# Altium schematic symbol library develboard_symbol.SchLib: 1 symbol
Pins are listed as number, name and electrical type; pins without a type are passive.

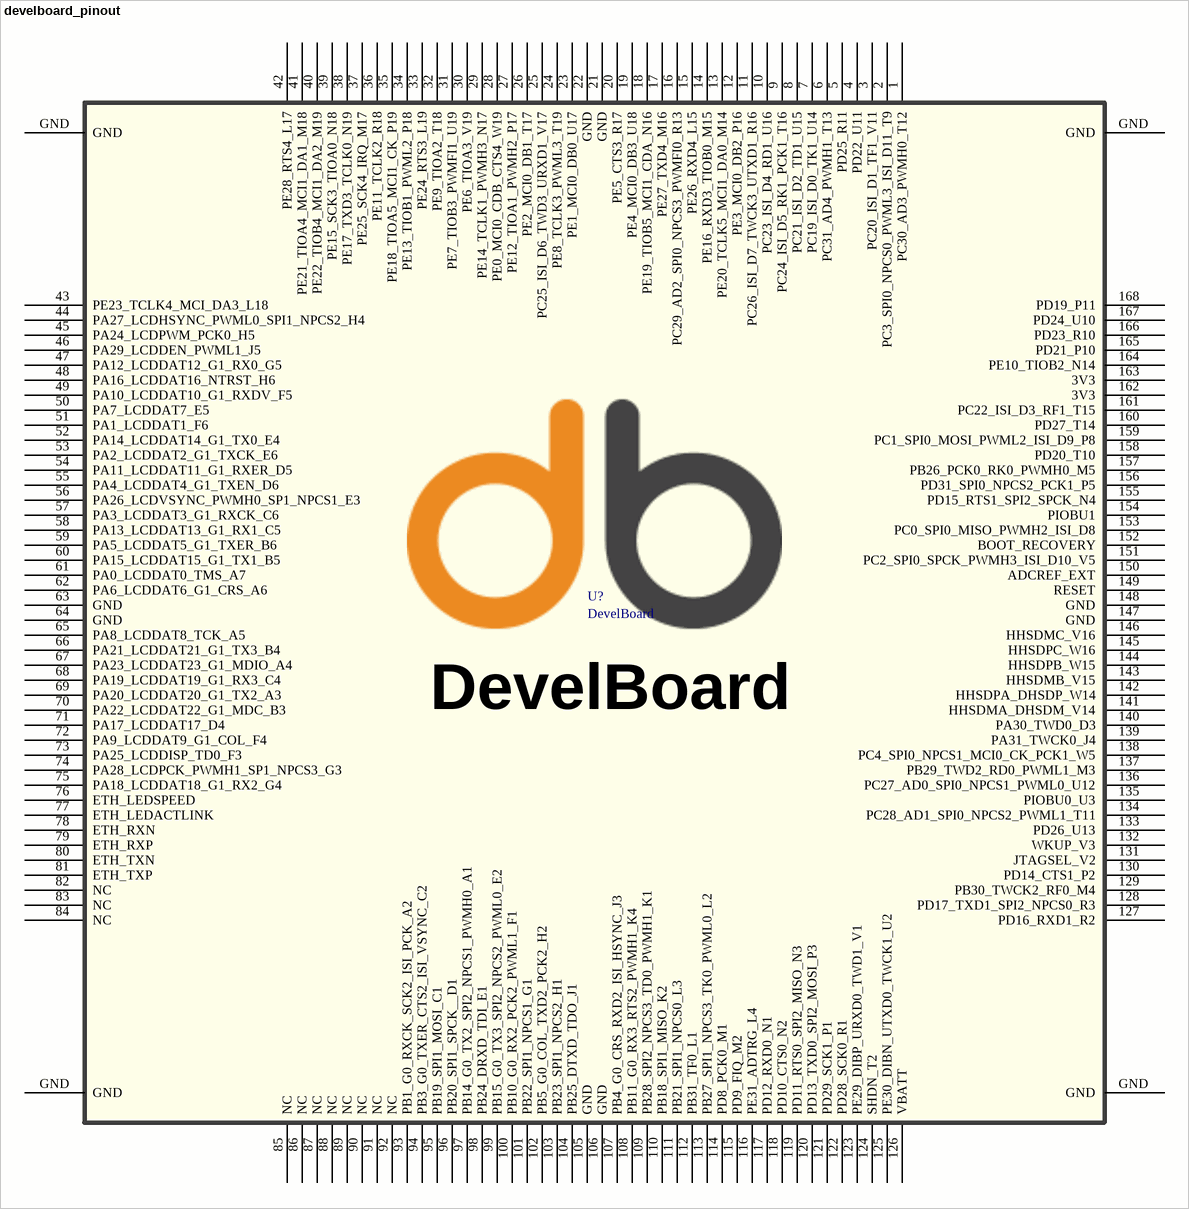
[diagram p0: symbol develboard_pinout]

## develboard_pinout
designator U?, comment DevelBoard
Faster Little Linux Module; Company: Develer srl; Symbol version: rev.0; Publish date: 26/10/2015
footprint develboard_footprint
pins: 1 PC30_AD3_PWMH0_T12, 2 PC3_SPI0_NPCS0_PWML3_ISI_D11_T9, 3 PC20_ISI_D1_TF1_V11, 4 PD22_U11, 5 PD25_R11, 6 PC31_AD4_PWMH1_T13, 7 PC19_ISI_D0_TK1_U14, 8 PC21_ISI_D2_TD1_U15, 9 PC24_ISI_D5_RK1_PCK1_T16, 10 PC23_ISI_D4_RD1_U16, 11 PC26_ISI_D7_TWCK3_UTXD1_R16, 12 PE3_MCI0_DB2_P16, 13 PE20_TCLK5_MCI1_DA0_M14, 14 PE16_RXD3_TIOB0_M15, 15 PE26_RXD4_L15, 16 PC29_AD2_SPI0_NPCS3_PWMFI0_R13, 17 PE27_TXD4_M16, 18 PE19_TIOB5_MCI1_CDA_N16, 19 PE4_MCI0_DB3_U18, 20 PE5_CTS3_R17, 21 GND, 22 GND, 23 PE1_MCI0_DB0_U17, 24 PE8_TCLK3_PWML3_T19, 25 PC25_ISI_D6_TWD3_URXD1_V17, 26 PE2_MCI0_DB1_T17, 27 PE12_TIOA1_PWMH2_P17, 28 PE0_MCI0_CDB_CTS4_W19, 29 PE14_TCLK1_PWMH3_N17, 30 PE6_TIOA3_V19, 31 PE7_TIOB3_PWMFI1_U19, 32 PE9_TIOA2_T18, 33 PE24_RTS3_L19, 34 PE13_TIOB1_PWML2_P18, 35 PE18_TIOA5_MCI1_CK_P19, 36 PE11_TCLK2_R18, 37 PE25_SCK4_IRQ_M17, 38 PE17_TXD3_TCLK0_N19, 39 PE15_SCK3_TIOA0_N18, 40 PE22_TIOB4_MCI1_DA2_M19, 41 PE21_TIOA4_MCI1_DA1_M18, 42 PE28_RTS4_L17, 43 PE23_TCLK4_MCI_DA3_L18, 44 PA27_LCDHSYNC_PWML0_SPI1_NPCS2_H4, 45 PA24_LCDPWM_PCK0_H5, 46 PA29_LCDDEN_PWML1_J5, 47 PA12_LCDDAT12_G1_RX0_G5, 48 PA16_LCDDAT16_NTRST_H6, 49 PA10_LCDDAT10_G1_RXDV_F5, 50 PA7_LCDDAT7_E5, 51 PA1_LCDDAT1_F6, 52 PA14_LCDDAT14_G1_TX0_E4, 53 PA2_LCDDAT2_G1_TXCK_E6, 54 PA11_LCDDAT11_G1_RXER_D5, 55 PA4_LCDDAT4_G1_TXEN_D6, 56 PA26_LCDVSYNC_PWMH0_SP1_NPCS1_E3, 57 PA3_LCDDAT3_G1_RXCK_C6, 58 PA13_LCDDAT13_G1_RX1_C5, 59 PA5_LCDDAT5_G1_TXER_B6, 60 PA15_LCDDAT15_G1_TX1_B5, 61 PA0_LCDDAT0_TMS_A7, 62 PA6_LCDDAT6_G1_CRS_A6, 63 GND, 64 GND, 65 PA8_LCDDAT8_TCK_A5, 66 PA21_LCDDAT21_G1_TX3_B4, 67 PA23_LCDDAT23_G1_MDIO_A4, 68 PA19_LCDDAT19_G1_RX3_C4, 69 PA20_LCDDAT20_G1_TX2_A3, 70 PA22_LCDDAT22_G1_MDC_B3, 71 PA17_LCDDAT17_D4, 72 PA9_LCDDAT9_G1_COL_F4, 73 PA25_LCDDISP_TD0_F3, 74 PA28_LCDPCK_PWMH1_SP1_NPCS3_G3, 75 PA18_LCDDAT18_G1_RX2_G4, 76 ETH_LEDSPEED, 77 ETH_LEDACTLINK, 78 ETH_RXN, 79 ETH_RXP, 80 ETH_TXN, 81 ETH_TXP, 82 NC, 83 NC, 84 NC, 85 NC, 86 NC, 87 NC, 88 NC, 89 NC, 90 NC, 91 NC, 92 NC, 93 PB1_G0_RXCK_SCK2_ISI_PCK_A2, 94 PB3_G0_TXER_CTS2_ISI_VSYNC_C2, 95 PB19_SPI1_MOSI_C1, 96 PB20_SPI1_SPCK__D1, 97 PB14_G0_TX2_SPI2_NPCS1_PWMH0_A1, 98 PB24_DRXD_TDI_E1, 99 PB15_G0_TX3_SPI2_NPCS2_PWML0_E2, 100 PB10_G0_RX2_PCK2_PWML1_F1, 101 PB22_SPI1_NPCS1_G1, 102 PB5_G0_COL_TXD2_PCK2_H2, 103 PB23_SPI1_NPCS2_H1, 104 PB25_DTXD_TDO_J1, 105 GND, 106 GND, 107 PB4_G0_CRS_RXD2_ISI_HSYNC_J3, 108 PB11_G0_RX3_RTS2_PWMH1_K4, 109 PB28_SPI2_NPCS3_TD0_PWMH1_K1, 110 PB18_SPI1_MISO_K2, 111 PB21_SPI1_NPCS0_L3, 112 PB31_TF0_L1, 113 PB27_SPI1_NPCS3_TK0_PWML0_L2, 114 PD8_PCK0_M1, 115 PD9_FIQ_M2, 116 PE31_ADTRG_L4, 117 PD12_RXD0_N1, 118 PD10_CTS0_N2, 119 PD11_RTS0_SPI2_MISO_N3, 120 PD13_TXD0_SPI2_MOSI_P3, 121 PD29_SCK1_P1, 122 PD28_SCK0_R1, 123 PE29_DIBP_URXD0_TWD1_V1, 124 SHDN_T2, 125 PE30_DIBN_UTXD0_TWCK1_U2, 126 VBATT, 127 PD16_RXD1_R2, 128 PD17_TXD1_SPI2_NPCS0_R3, 129 PB30_TWCK2_RF0_M4, 130 PD14_CTS1_P2, 131 JTAGSEL_V2, 132 WKUP_V3, 133 PD26_U13, 134 PC28_AD1_SPI0_NPCS2_PWML1_T11, 135 PIOBU0_U3, 136 PC27_AD0_SPI0_NPCS1_PWML0_U12, 137 PB29_TWD2_RD0_PWML1_M3, 138 PC4_SPI0_NPCS1_MCI0_CK_PCK1_W5, 139 PA31_TWCK0_J4, 140 PA30_TWD0_D3, 141 HHSDMA_DHSDM_V14, 142 HHSDPA_DHSDP_W14, 143 HHSDMB_V15, 144 HHSDPB_W15, 145 HHSDPC_W16, 146 HHSDMC_V16, 147 GND, 148 GND, 149 RESET, 150 ADCREF_EXT, 151 PC2_SPI0_SPCK_PWMH3_ISI_D10_V5, 152 BOOT_RECOVERY, 153 PC0_SPI0_MISO_PWMH2_ISI_D8, 154 PIOBU1, 155 PD15_RTS1_SPI2_SPCK_N4, 156 PD31_SPI0_NPCS2_PCK1_P5, 157 PB26_PCK0_RK0_PWMH0_M5, 158 PD20_T10, 159 PC1_SPI0_MOSI_PWML2_ISI_D9_P8, 160 PD27_T14, 161 PC22_ISI_D3_RF1_T15, 162 3V3, 163 3V3, 164 PE10_TIOB2_N14, 165 PD21_P10, 166 PD23_R10, 167 PD24_U10, 168 PD19_P11, GND, GND, GND, GND